# EAGLE library part 52271-3069 (library SamacSys_Parts)
Molex FFC/FPC SMT 52271 Series 1mm Pitch 30 Way Right Angle SMT Female FPC Connector, ZIF Bottom Contact Source: Datasheet <https://componentsearchengine.com/Datasheets/1/52271-3069.pdf>
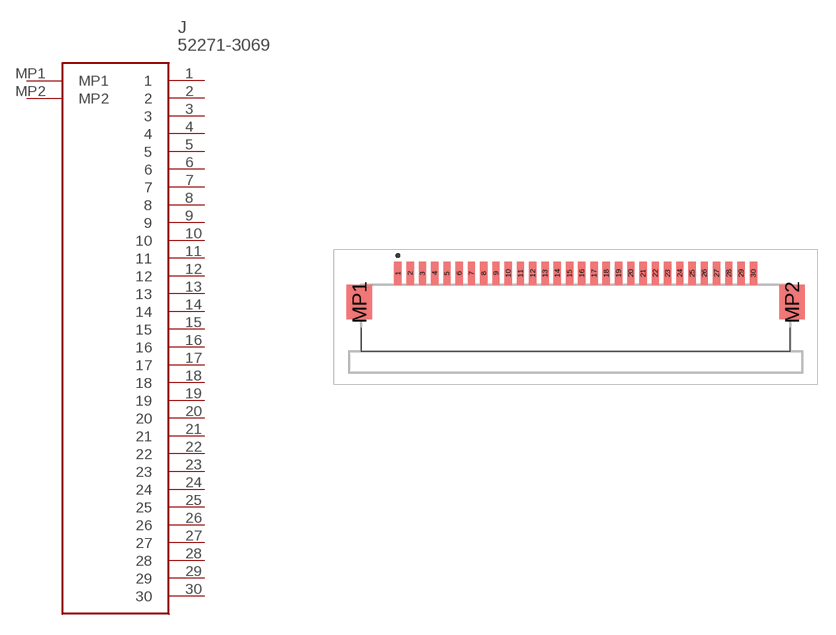
[diagram p29: symbol with the pads of 522713069; footprint 522713069]

Designator prefix J

## 52271-3069 (DESCRIPTION: Molex FFC/FPC SMT 52271 Series 1mm Pitch 30 Way Right Angle SMT Female FPC Connector, ZIF Bottom Contact; HEIGHT: 3mm; MANUFACTURER_NAME: Molex; MANUFACTURER_PART_NUMBER: 52271-3069; MOUSER_PART_NUMBER: 538-52271-3069; MOUSER_PRICE-STOCK: https://www.mouser.com/Search/Refine.aspx?Keyword=538-52271-3069)  [522713069]
1  1
2  2
3  3
4  4
5  5
6  6
7  7
8  8
9  9
10  10
11  11
12  12
13  13
14  14
15  15
16  16
17  17
18  18
19  19
20  20
21  21
22  22
23  23
24  24
25  25
26  26
27  27
28  28
29  29
30  30
MP1  MP1
MP2  MP2

## Footprint 522713069 (pad centres in mm)
52271-3069-2
smd 0.6 x 1.9: 1 -14.5,4.05; 2 -13.5,4.05; 3 -12.5,4.05; 4 -11.5,4.05; 5 -10.5,4.05; 6 -9.5,4.05; 7 -8.5,4.05; 8 -7.5,4.05; 9 -6.5,4.05; 10 -5.5,4.05; 11 -4.5,4.05; 12 -3.5,4.05; 13 -2.5,4.05; 14 -1.5,4.05; 15 -0.5,4.05; 16 0.5,4.05; 17 1.5,4.05; 18 2.5,4.05; 19 3.5,4.05; 20 4.5,4.05; 21 5.5,4.05; 22 6.5,4.05; 23 7.5,4.05; 24 8.5,4.05; 25 9.5,4.05; 26 10.5,4.05; 27 11.5,4.05; 28 12.5,4.05; 29 13.5,4.05; 30 14.5,4.05
smd 2.1 x 2.8: MP1 -17.65,1.7; MP2 17.65,1.7